# Altium schematic symbol library STM32G471VCI6.SchLib: 1 symbol
Pins are listed as number, name and electrical type; pins without a type are passive.

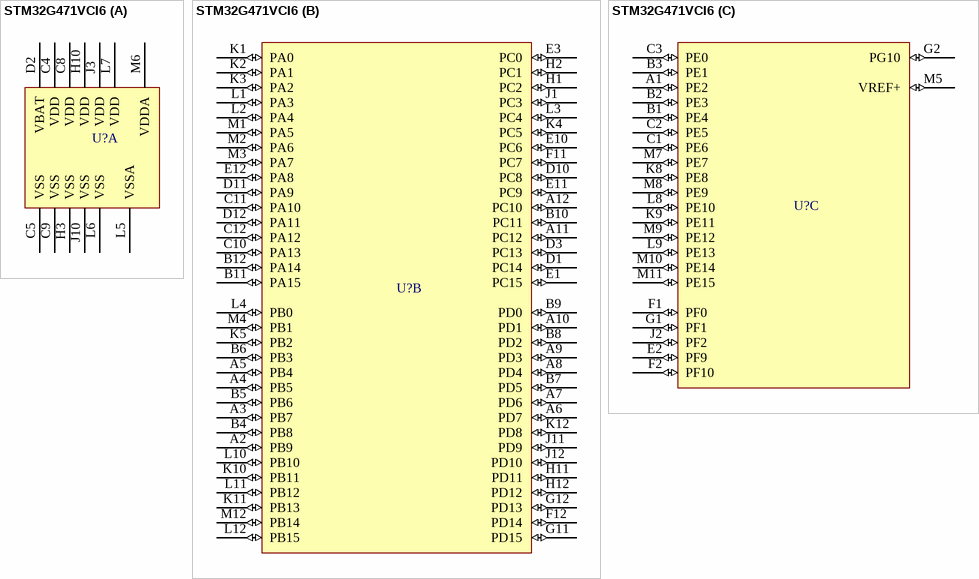
[diagram p0: symbol STM32G471VCI6]

## STM32G471VCI6
designator U?  (value not drawn)
Mainstream Arm Cortex-M4 core with DSP and FPU, 170 MHz with 256 Kbytes of Flash memory, Math Accelerator , Medium Analog level integration
part A pins: C4 VDD (power), C5 VSS (power), C8 VDD (power), C9 VSS (power), D2 VBAT (power), H3 VSS (power), H10 VDD (power), J3 VDD (power), J10 VSS (power), L5 VSSA (power), L6 VSS (power), L7 VDD (power), M6 VDDA (power)
part B pins: A2 PB9 (io), A3 PB7 (io), A4 PB5 (io), A5 PB4 (io), A6 PD7 (io), A7 PD6 (io), A8 PD4 (io), A9 PD3 (io), A10 PD1 (io), A11 PC12 (io), A12 PC10 (io), B4 PB8 (io), B5 PB6 (io), B6 PB3 (io), B7 PD5 (io), B8 PD2 (io), B9 PD0 (io), B10 PC11 (io), B11 PA15 (io), B12 PA14 (io), C10 PA13 (io), C11 PA10 (io), C12 PA12 (io), D1 PC14 (io), D3 PC13 (io), D10 PC8 (io), D11 PA9 (io), D12 PA11 (io), E1 PC15 (io), E3 PC0 (io), E10 PC6 (io), E11 PC9 (io), E12 PA8 (io), F11 PC7 (io), F12 PD14 (io), G11 PD15 (io), G12 PD13 (io), H1 PC2 (io), H2 PC1 (io), H11 PD11 (io), H12 PD12 (io), J1 PC3 (io), J11 PD9 (io), J12 PD10 (io), K1 PA0 (io), K2 PA1 (io), K3 PA2 (io), K4 PC5 (io), K5 PB2 (io), K10 PB11 (io), K11 PB13 (io), K12 PD8 (io), L1 PA3 (io), L2 PA4 (io), L3 PC4 (io), L4 PB0 (io), L10 PB10 (io), L11 PB12 (io), L12 PB15 (io), M1 PA5 (io), M2 PA6 (io), M3 PA7 (io), M4 PB1 (io), M12 PB14 (io)
part C pins: A1 PE2 (io), B1 PE4 (io), B2 PE3 (io), B3 PE1 (io), C1 PE6 (io), C2 PE5 (io), C3 PE0 (io), E2 PF9 (io), F1 PF0 (io), F2 PF10 (io), G1 PF1 (io), G2 PG10 (io), J2 PF2 (io), K8 PE8 (io), K9 PE11 (io), L8 PE10 (io), L9 PE13 (io), M5 VREF+ (io), M7 PE7 (io), M8 PE9 (io), M9 PE12 (io), M10 PE14 (io), M11 PE15 (io)